# Altium footprint library HR9111XXA.PcbLib: 1 footprints
Each footprint in its own frame and in the unit in brackets; x right, y up, seen from the top. Pads: shape width x height; smd on the part's side, far side on the other; paste and mask are expansions set on the pad; w line width, h text height; cw(c..) or ccw(c..) is an arc to the next point about the centre after c.
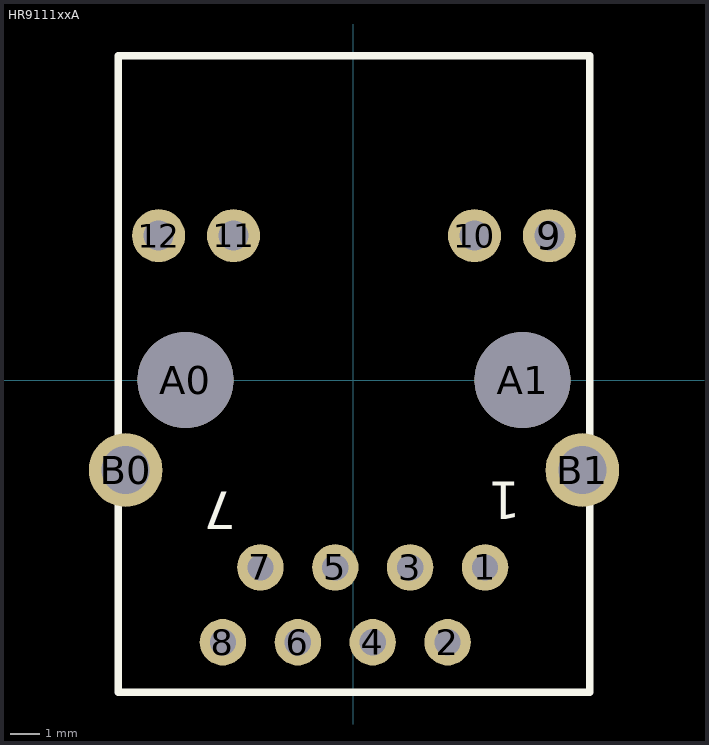
[diagram p0: the footprint, top view; thin cyan lines are the x and y axes]

## HR9111xxA [mm] "RJ45 Connector with integrated magnetics"
pads (16):
  round 1.575 hole 0.889: 1(4.462,-6.344) 2(3.192,-8.884) 3(1.922,-6.344) 4(0.652,-8.884) 5(-0.618,-6.344) 6(-1.888,-8.884) 7(-3.158,-6.344) 8(-4.428,-8.884)
  round 1.8 hole 1.02: 9(6.642,4.906) 10(4.102,4.906) 11(-4.068,4.906) 12(-6.608,4.906)
  round 3.25 hole 3.25: A0(-5.698,0.006) A1(5.732,0.006)
  round 2.5 hole 1.63: B0(-7.728,-3.044) B1(7.762,-3.044)
Top Overlay:
  lines w0.254: -7.983,-10.577 8.017,-10.577 8.017,11.006 -7.983,11.006 -7.983,-10.577
  text "7" at -3.982,-3.777 h1.27
  text "1" at 5.677,-3.445 h1.27